# Altium schematic symbol library Linear_Technology_LT6105IMS8_PBF.SchLib: 1 symbol
Pins are listed as number, name and electrical type; pins without a type are passive.

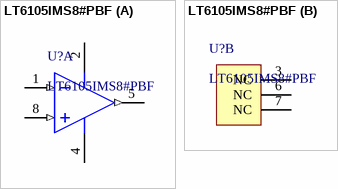
[diagram p0: symbol LT6105IMS8#PBF]

## LT6105IMS8#PBF
designator U?
Single Channel, Precision, Rail-to-Rail Input Current Sense Amplifier, 0.1 MHz Typical GBW, 2.85 to 36 V, 8-Pin SOP (MS8-8), Industrial, Pb-Free; Linear Technology Part Number: LT6105; Manufacturer: Linear Technology; Vs Max (V): 36; Vos (mV) Guaranteed: 0.3; Channels (#): 1; Vs Min (V): 2.85; Vos (mV) Typical: 0.1; Is (mA) Typical: 0.2; PartNumber: LT6105IMS8#PBF; Type: CSA; PackageVersion: Rev G; ComponentLink1Description: Manufacturer URL; ComponentLink2Description: Datasheet; DatasheetVersion: Rev. A; ComponentLink3URL: http://cds.linear.com/docs/en/packaging/05081610_G_SO8.pdf; ComponentLink1URL: http://www.linear.com/; RevisionNote: URLs updated; ComponentLink2URL: http://cds.linear.com/docs/en/datasheet/6105fa.pdf; ComponentLink3Description: Package Specification; RoHS: Pb-Free; Mounting Technology: Surface Mount; PackageReference: LT-MS8-8; PackageDescription: 8-Lead Plastic Small Outline, Body 3.9 x 4.9 mm, Pitch 1.27 mm; GBW (MHz) Typical: 0.1
footprint LT-MS8-8_L
footprint LT-MS8-8_M
footprint LT-MS8-8_N
part A pins: 1 -IN (in) "Negative Sense Input Terminal. Negative sense voltage input will remain functional for voltages up to 44V, referred to V-. Connect -IN to an external gain-setting resistor RIN1 (RIN1 = RIN2) to set the gain.", 2 V+ (power) "Power Supply Voltage. This pin supplies current to the amplifi er and can operate from 2.85V to 36V, independent of the voltages on the -IN or +IN pins.", 4 V- (power) "Negative Power Supply Voltage or Ground for Single Supply Operation.", 5 VOUT (out) "Voltage Output: VOUT = AV • (VSENSE +/- VOS) VOS is the input offset voltage. AV is the gain set by external RIN1, RIN2, ROUT. AV = ROUT/RIN1, for RIN1 = RIN2.", 8 +IN (in) "Positive Sense Input Terminal. Connecting a source to VS + and a load to VS - will allow the LT6105 to monitor the current through RSENSE, refer to Figure 1. Connect +IN to an external gain-setting resistor RIN2 to set the (See Datasheet)"
part B pins: 3 NC "Not Connected Internally.", 6 NC "Not Connected Internally.", 7 NC "Not Connected Internally."